# Altium footprint library 常用元件.PcbLib: 186 footprints (part 6 of 12)
Each footprint in its own frame and in the unit in brackets; x right, y up, seen from the top. Pads: shape width x height; smd on the part's side, far side on the other; paste and mask are expansions set on the pad; w line width, h text height; cw(c..) or ccw(c..) is an arc to the next point about the centre after c.
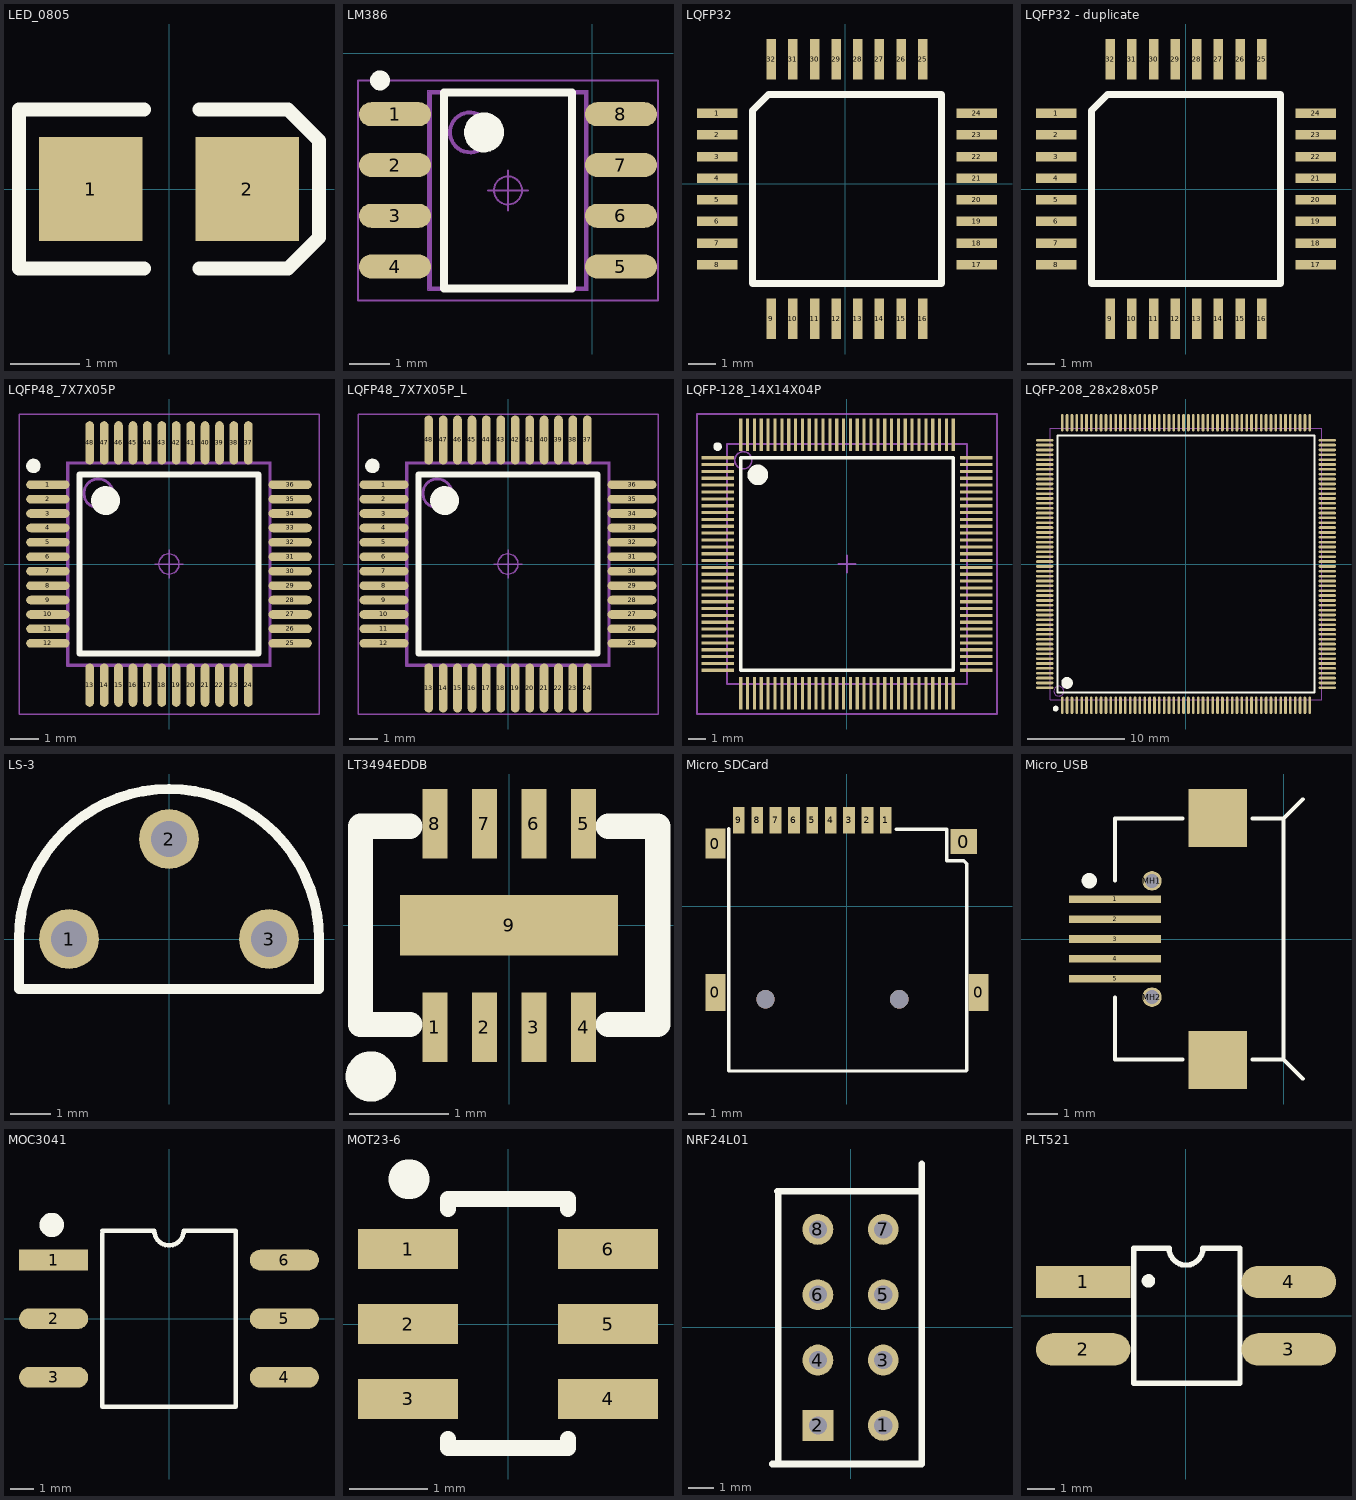
[diagram p5: the footprints below, top view; thin cyan lines are the x and y axes]

## LED_0805 [mm]
pads (2):
  rect 1.5x1.5 smd: 1(-1.13,0) 2(1.13,0)
Top Overlay:
  lines w0.2: -0.362,-1.15 -2.172,-1.15 -2.172,1.15 -0.362,1.15 ; 0.438,-1.15 1.725,-1.15 2.172,-0.703 2.172,0.703 1.725,1.15 0.438,1.15
3D body: height 0.53, standoff -0.02, extent -1.013,-0.625 0.987,0.625

## LM386 [mm] "功放芯片"
pads (8):
  oval 1.8x0.6 smd: 1(-4.933,-1.524) 2(-4.933,-2.794) 3(-4.933,-4.064) 4(-4.933,-5.334) 5(0.717,-5.334) 6(0.717,-4.064) 7(0.717,-2.794) 8(0.717,-1.524)
Top Overlay:
  circle w0.5: c-2.708,-1.979 r0.25
  circle w0.25: c-5.308,-0.679 r0.125
  lines w0.2: -3.708,-5.879 -0.508,-5.879 -0.508,-0.979 -3.708,-0.979 -3.708,-5.879
Mechanical 15:
  circle w0.1: c-3.058,-1.979 r0.5
  lines w0.1: -4.058,-5.879 -0.158,-5.879 -0.158,-0.979 -4.058,-0.979 -4.058,-5.879
  text "1" at -1.658,-3.593 h0.75
Mechanical 16:
  circle w0.05: c-2.108,-3.429 r0.35
  lines w0.001: -4.108,-5.929 -0.108,-5.929 -0.108,-0.929 -4.108,-0.929 -4.108,-5.929
  lines w0.05: -2.608,-3.429 -1.608,-3.429 ; -2.108,-3.929 -2.108,-2.929 ; -5.858,-6.179 1.642,-6.179 1.642,-0.679 -5.858,-0.679 -5.858,-6.179

## LQFP32 [mm]
pads (32):
  rect 1.5x0.35 smd: 1(-4.729,2.602) 2(-4.729,1.802) 3(-4.729,1.002) 4(-4.729,0.202) 5(-4.729,-0.598) 6(-4.729,-1.398) 7(-4.729,-2.198) 8(-4.729,-2.998) 17(4.871,-2.998) 18(4.871,-2.198) 19(4.871,-1.398) 20(4.871,-0.598) 21(4.871,0.202) 22(4.871,1.002) 23(4.871,1.802) 24(4.871,2.602)
  rect 0.35x1.5 smd: 9(-2.729,-4.998) 10(-1.929,-4.998) 11(-1.129,-4.998) 12(-0.329,-4.998) 13(0.471,-4.998) 14(1.271,-4.998) 15(2.071,-4.998) 16(2.871,-4.998) 25(2.871,4.602) 26(2.071,4.602) 27(1.271,4.602) 28(0.471,4.602) 29(-0.329,4.602) 30(-1.129,4.602) 31(-1.929,4.602) 32(-2.729,4.602)
Top Overlay:
  lines w0.254: -3.429,-3.698 3.571,-3.698 3.571,3.302 -2.829,3.302 -3.429,2.702 -3.429,-3.698
  text "." at -2.629,2.302 h1.52

## LQFP32 - duplicate [mm]
pads (32):
  rect 1.5x0.35 smd: 1(-4.8,2.8) 2(-4.8,2) 3(-4.8,1.2) 4(-4.8,0.4) 5(-4.8,-0.4) 6(-4.8,-1.2) 7(-4.8,-2) 8(-4.8,-2.8) 17(4.8,-2.8) 18(4.8,-2) 19(4.8,-1.2) 20(4.8,-0.4) 21(4.8,0.4) 22(4.8,1.2) 23(4.8,2) 24(4.8,2.8)
  rect 0.35x1.5 smd: 9(-2.8,-4.8) 10(-2,-4.8) 11(-1.2,-4.8) 12(-0.4,-4.8) 13(0.4,-4.8) 14(1.2,-4.8) 15(2,-4.8) 16(2.8,-4.8) 25(2.8,4.8) 26(2,4.8) 27(1.2,4.8) 28(0.4,4.8) 29(-0.4,4.8) 30(-1.2,4.8) 31(-2,4.8) 32(-2.8,4.8)
Top Overlay:
  lines w0.254: -3.5,-3.5 -3.5,2.9 -2.9,3.5 3.5,3.5 3.5,-3.5 -3.5,-3.5
  text "." at -2.7,2.5 h1.52

## LQFP48_7X7X05P [mm]
pads (48):
  oval 1.5x0.3 smd: 1(-4.2,2.75) 2(-4.2,2.25) 3(-4.2,1.75) 4(-4.2,1.25) 5(-4.2,0.75) 6(-4.2,0.25) 7(-4.2,-0.25) 8(-4.2,-0.75) 9(-4.2,-1.25) 10(-4.2,-1.75) 11(-4.2,-2.25) 12(-4.2,-2.75) 25(4.2,-2.75) 26(4.2,-2.25) 27(4.2,-1.75) 28(4.2,-1.25) 29(4.2,-0.75) 30(4.2,-0.25) 31(4.2,0.25) 32(4.2,0.75) 33(4.2,1.25) 34(4.2,1.75) 35(4.2,2.25) 36(4.2,2.75)
  oval 0.3x1.5 smd: 13(-2.75,-4.2) 14(-2.25,-4.2) 15(-1.75,-4.2) 16(-1.25,-4.2) 17(-0.75,-4.2) 18(-0.25,-4.2) 19(0.25,-4.2) 20(0.75,-4.2) 21(1.25,-4.2) 22(1.75,-4.2) 23(2.25,-4.2) 24(2.75,-4.2) 37(2.75,4.2) 38(2.25,4.2) 39(1.75,4.2) 40(1.25,4.2) 41(0.75,4.2) 42(0.25,4.2) 43(-0.25,4.2) 44(-0.75,4.2) 45(-1.25,4.2) 46(-1.75,4.2) 47(-2.25,4.2) 48(-2.75,4.2)
Top Overlay:
  circle w0.25: c-4.7,3.4 r0.125
  circle w0.5: c-2.2,2.2 r0.25
  lines w0.2: -3.1,-3.1 3.1,-3.1 3.1,3.1 -3.1,3.1 -3.1,-3.1
Mechanical 15:
  circle w0.1: c-2.45,2.45 r0.5
  lines w0.1: -3.5,-3.5 3.5,-3.5 3.5,3.5 -3.5,3.5 -3.5,-3.5
Mechanical 16:
  circle w0.05: c0,0 r0.35
  lines w0.001: -3.55,-3.55 3.55,-3.55 3.55,3.55 -3.55,3.55 -3.55,-3.55
  lines w0.05: -0.5,0 0.5,0 ; 0,-0.5 0,0.5 ; -5.2,-5.2 5.2,-5.2 5.2,5.2 -5.2,5.2 -5.2,-5.2

## LQFP48_7X7X05P_L [mm]
pads (48):
  oval 1.7x0.3 smd: 1(-4.3,2.75) 2(-4.3,2.25) 3(-4.3,1.75) 4(-4.3,1.25) 5(-4.3,0.75) 6(-4.3,0.25) 7(-4.3,-0.25) 8(-4.3,-0.75) 9(-4.3,-1.25) 10(-4.3,-1.75) 11(-4.3,-2.25) 12(-4.3,-2.75) 25(4.3,-2.75) 26(4.3,-2.25) 27(4.3,-1.75) 28(4.3,-1.25) 29(4.3,-0.75) 30(4.3,-0.25) 31(4.3,0.25) 32(4.3,0.75) 33(4.3,1.25) 34(4.3,1.75) 35(4.3,2.25) 36(4.3,2.75)
  oval 0.3x1.7 smd: 13(-2.75,-4.3) 14(-2.25,-4.3) 15(-1.75,-4.3) 16(-1.25,-4.3) 17(-0.75,-4.3) 18(-0.25,-4.3) 19(0.25,-4.3) 20(0.75,-4.3) 21(1.25,-4.3) 22(1.75,-4.3) 23(2.25,-4.3) 24(2.75,-4.3) 37(2.75,4.3) 38(2.25,4.3) 39(1.75,4.3) 40(1.25,4.3) 41(0.75,4.3) 42(0.25,4.3) 43(-0.25,4.3) 44(-0.75,4.3) 45(-1.25,4.3) 46(-1.75,4.3) 47(-2.25,4.3) 48(-2.75,4.3)
Top Overlay:
  circle w0.5: c-2.2,2.2 r0.25
  circle w0.25: c-4.7,3.4 r0.125
  lines w0.2: -3.1,-3.1 -3.1,3.1 3.1,3.1 3.1,-3.1 -3.1,-3.1
Mechanical 15:
  circle w0.1: c-2.45,2.45 r0.5
  lines w0.1: -3.5,-3.5 -3.5,3.5 3.5,3.5 3.5,-3.5 -3.5,-3.5
Mechanical 16:
  circle w0.05: c0,0 r0.35
  lines w0.001: -3.55,-3.55 -3.55,3.55 3.55,3.55 3.55,-3.55 -3.55,-3.55
  lines w0.05: -0.5,0 0.5,0 ; 0,-0.5 0,0.5 ; -5.2,-5.2 -5.2,5.2 5.2,5.2 5.2,-5.2 -5.2,-5.2

## LQFP-128_14X14X04P [mm]
pads (128):
  rect 1.9x0.18 smd: 1(-7.55,6.2) 2(-7.55,5.8) 3(-7.55,5.4) 4(-7.55,5) 5(-7.55,4.6) 6(-7.55,4.2) 7(-7.55,3.8) 8(-7.55,3.4) 9(-7.55,3) 10(-7.55,2.6) 11(-7.55,2.2) 12(-7.55,1.8) 13(-7.55,1.4) 14(-7.55,1) 15(-7.55,0.6) 16(-7.55,0.2) 17(-7.55,-0.2) 18(-7.55,-0.6) 19(-7.55,-1) 20(-7.55,-1.4) 21(-7.55,-1.8) 22(-7.55,-2.2) 23(-7.55,-2.6) 24(-7.55,-3) 25(-7.55,-3.4) 26(-7.55,-3.8) 27(-7.55,-4.2) 28(-7.55,-4.6) 29(-7.55,-5) 30(-7.55,-5.4) 31(-7.55,-5.8) 32(-7.55,-6.2) 65(7.55,-6.2) 66(7.55,-5.8) 67(7.55,-5.4) 68(7.55,-5) 69(7.55,-4.6) 70(7.55,-4.2) 71(7.55,-3.8) 72(7.55,-3.4) 73(7.55,-3) 74(7.55,-2.6) 75(7.55,-2.2) 76(7.55,-1.8) 77(7.55,-1.4) 78(7.55,-1) 79(7.55,-0.6) 80(7.55,-0.2) 81(7.55,0.2) 82(7.55,0.6) 83(7.55,1) 84(7.55,1.4) 85(7.55,1.8) 86(7.55,2.2) 87(7.55,2.6) 88(7.55,3) 89(7.55,3.4) 90(7.55,3.8) 91(7.55,4.2) 92(7.55,4.6) 93(7.55,5) 94(7.55,5.4) 95(7.55,5.8) 96(7.55,6.2)
  rect 0.18x1.9 smd: 33(-6.2,-7.55) 34(-5.8,-7.55) 35(-5.4,-7.55) 36(-5,-7.55) 37(-4.6,-7.55) 38(-4.2,-7.55) 39(-3.8,-7.55) 40(-3.4,-7.55) 41(-3,-7.55) 42(-2.6,-7.55) 43(-2.2,-7.55) 44(-1.8,-7.55) 45(-1.4,-7.55) 46(-1,-7.55) 47(-0.6,-7.55) 48(-0.2,-7.55) 49(0.2,-7.55) 50(0.6,-7.55) 51(1,-7.55) 52(1.4,-7.55) 53(1.8,-7.55) 54(2.2,-7.55) 55(2.6,-7.55) 56(3,-7.55) 57(3.4,-7.55) 58(3.8,-7.55) 59(4.2,-7.55) 60(4.6,-7.55) 61(5,-7.55) 62(5.4,-7.55) 63(5.8,-7.55) 64(6.2,-7.55) 97(6.2,7.55) 98(5.8,7.55) 99(5.4,7.55) 100(5,7.55) 101(4.6,7.55) 102(4.2,7.55) 103(3.8,7.55) 104(3.4,7.55) 105(3,7.55) 106(2.6,7.55) 107(2.2,7.55) 108(1.8,7.55) 109(1.4,7.55) 110(1,7.55) 111(0.6,7.55) 112(0.2,7.55) 113(-0.2,7.55) 114(-0.6,7.55) 115(-1,7.55) 116(-1.4,7.55) 117(-1.8,7.55) 118(-2.2,7.55) 119(-2.6,7.55) 120(-3,7.55) 121(-3.4,7.55) 122(-3.8,7.55) 123(-4.2,7.55) 124(-4.6,7.55) 125(-5,7.55) 126(-5.4,7.55) 127(-5.8,7.55) 128(-6.2,7.55)
Top Overlay:
  circle w0.6: c-5.2,5.2 r0.3
  circle w0.25: c-7.55,6.85 r0.125
  lines w0.2: -6.2,-6.2 6.2,-6.2 6.2,6.2 -6.2,6.2 -6.2,-6.2
Mechanical 13:
  circle w0.1: c-6.05,6.05 r0.5
  lines w0.1: -7,-7 7,-7 7,7 -7,7 -7,-7
Mechanical 15:
  lines w0.1: -0.5,0 0.5,0 ; 0,-0.5 0,0.5 ; -8.75,-8.75 8.75,-8.75 8.75,8.75 -8.75,8.75 -8.75,-8.75
3D body: height 1.6, standoff 0.05, extent -7,-7 7,7

## LQFP-208_28x28x05P [mm]
pads (208):
  oval 0.28x1.8 smd mask+0.051: 1(-12.75,-14.55) 2(-12.25,-14.55) 3(-11.75,-14.55) 4(-11.25,-14.55) 5(-10.75,-14.55) 6(-10.25,-14.55) 7(-9.75,-14.55) 8(-9.25,-14.55) 9(-8.75,-14.55) 10(-8.25,-14.55) 11(-7.75,-14.55) 12(-7.25,-14.55) 13(-6.75,-14.55) 14(-6.25,-14.55) 15(-5.75,-14.55) 16(-5.25,-14.55) 17(-4.75,-14.55) 18(-4.25,-14.55) 19(-3.75,-14.55) 20(-3.25,-14.55) 21(-2.75,-14.55) 22(-2.25,-14.55) 23(-1.75,-14.55) 24(-1.25,-14.55) 25(-0.75,-14.55) 26(-0.25,-14.55) 27(0.25,-14.55) 28(0.75,-14.55) 29(1.25,-14.55) 30(1.75,-14.55) 31(2.25,-14.55) 32(2.75,-14.55) 33(3.25,-14.55) 34(3.75,-14.55) 35(4.25,-14.55) 36(4.75,-14.55) 37(5.25,-14.55) 38(5.75,-14.55) 39(6.25,-14.55) 40(6.75,-14.55) 41(7.25,-14.55) 42(7.75,-14.55) 43(8.25,-14.55) 44(8.75,-14.55) 45(9.25,-14.55) 46(9.75,-14.55) 47(10.25,-14.55) 48(10.75,-14.55) 49(11.25,-14.55) 50(11.75,-14.55) 51(12.25,-14.55) 52(12.75,-14.55) 105(12.75,14.55) 106(12.25,14.55) 107(11.75,14.55) 108(11.25,14.55) 109(10.75,14.55) 110(10.25,14.55) 111(9.75,14.55) 112(9.25,14.55) 113(8.75,14.55) 114(8.25,14.55) 115(7.75,14.55) 116(7.25,14.55) 117(6.75,14.55) 118(6.25,14.55) 119(5.75,14.55) 120(5.25,14.55) 121(4.75,14.55) 122(4.25,14.55) 123(3.75,14.55) 124(3.25,14.55) 125(2.75,14.55) 126(2.25,14.55) 127(1.75,14.55) 128(1.25,14.55) 129(0.75,14.55) 130(0.25,14.55) 131(-0.25,14.55) 132(-0.75,14.55) 133(-1.25,14.55) 134(-1.75,14.55) 135(-2.25,14.55) 136(-2.75,14.55) 137(-3.25,14.55) 138(-3.75,14.55) 139(-4.25,14.55) 140(-4.75,14.55) 141(-5.25,14.55) 142(-5.75,14.55) 143(-6.25,14.55) 144(-6.75,14.55) 145(-7.25,14.55) 146(-7.75,14.55) 147(-8.25,14.55) 148(-8.75,14.55) 149(-9.25,14.55) 150(-9.75,14.55) 151(-10.25,14.55) 152(-10.75,14.55) 153(-11.25,14.55) 154(-11.75,14.55) 155(-12.25,14.55) 156(-12.75,14.55)
  oval 1.8x0.28 smd mask+0.051: 53(14.55,-12.75) 54(14.55,-12.25) 55(14.55,-11.75) 56(14.55,-11.25) 57(14.55,-10.75) 58(14.55,-10.25) 59(14.55,-9.75) 60(14.55,-9.25) 61(14.55,-8.75) 62(14.55,-8.25) 63(14.55,-7.75) 64(14.55,-7.25) 65(14.55,-6.75) 66(14.55,-6.25) 67(14.55,-5.75) 68(14.55,-5.25) 69(14.55,-4.75) 70(14.55,-4.25) 71(14.55,-3.75) 72(14.55,-3.25) 73(14.55,-2.75) 74(14.55,-2.25) 75(14.55,-1.75) 76(14.55,-1.25) 77(14.55,-0.75) 78(14.55,-0.25) 79(14.55,0.25) 80(14.55,0.75) 81(14.55,1.25) 82(14.55,1.75) 83(14.55,2.25) 84(14.55,2.75) 85(14.55,3.25) 86(14.55,3.75) 87(14.55,4.25) 88(14.55,4.75) 89(14.55,5.25) 90(14.55,5.75) 91(14.55,6.25) 92(14.55,6.75) 93(14.55,7.25) 94(14.55,7.75) 95(14.55,8.25) 96(14.55,8.75) 97(14.55,9.25) 98(14.55,9.75) 99(14.55,10.25) 100(14.55,10.75) 101(14.55,11.25) 102(14.55,11.75) 103(14.55,12.25) 104(14.55,12.75) 157(-14.55,12.75) 158(-14.55,12.25) 159(-14.55,11.75) 160(-14.55,11.25) 161(-14.55,10.75) 162(-14.55,10.25) 163(-14.55,9.75) 164(-14.55,9.25) 165(-14.55,8.75) 166(-14.55,8.25) 167(-14.55,7.75) 168(-14.55,7.25) 169(-14.55,6.75) 170(-14.55,6.25) 171(-14.55,5.75) 172(-14.55,5.25) 173(-14.55,4.75) 174(-14.55,4.25) 175(-14.55,3.75) 176(-14.55,3.25) 177(-14.55,2.75) 178(-14.55,2.25) 179(-14.55,1.75) 180(-14.55,1.25) 181(-14.55,0.75) 182(-14.55,0.25) 183(-14.55,-0.25) 184(-14.55,-0.75) 185(-14.55,-1.25) 186(-14.55,-1.75) 187(-14.55,-2.25) 188(-14.55,-2.75) 189(-14.55,-3.25) 190(-14.55,-3.75) 191(-14.55,-4.25) 192(-14.55,-4.75) 193(-14.55,-5.25) 194(-14.55,-5.75) 195(-14.55,-6.25) 196(-14.55,-6.75) 197(-14.55,-7.25) 198(-14.55,-7.75) 199(-14.55,-8.25) 200(-14.55,-8.75) 201(-14.55,-9.25) 202(-14.55,-9.75) 203(-14.55,-10.25) 204(-14.55,-10.75) 205(-14.55,-11.25) 206(-14.55,-11.75) 207(-14.55,-12.25) 208(-14.55,-12.75)
Top Overlay:
  circle w0.3: c-13.425,-14.9 r0.15
  circle w0.6: c-12.25,-12.25 r0.3
  lines w0.2: -13.25,-13.25 -13.25,13.25 13.25,13.25 13.25,-13.25 -13.25,-13.25
Mechanical 13:
  circle w0.1: c-13.1,-13.1 r0.5
  lines w0.1: -14,-14 -14,14 14,14 14,-14 -14,-14

## LS-3 [mm] "立式可调电阻"
pads (3):
  round 1.5 hole 0.9: 1(-2.5,0) 2(0,2.5) 3(2.5,0)
Top Overlay:
  lines w0.254: -3.75,-1.25 -3.75,0 cw(c0,0) 0,3.75 cw(c0,0) 3.75,0 3.75,-1.25 -3.75,-1.25

## LT3494EDDB [mm] "DFN-8_3X2MM"
pads (9):
  rect 0.25x0.7 smd: 1(-0.75,-1.027) 2(-0.25,-1.027) 3(0.25,-1.027) 4(0.75,-1.027) 5(0.75,1.027) 6(0.25,1.027) 7(-0.25,1.027) 8(-0.75,1.027)
  rect 2.2x0.61 smd: 9(0,0)
Top Overlay:
  circle w0.254: c-1.397,-1.524 r0.127
  lines w0.254: -1,-1 -1.5,-1 -1.5,1 -1,1 ; 1,-1 1.5,-1 1.5,1 1,1

## Micro_SDCard [mm]
pads (13):
  rect 1.2x2.2 smd: 0(-7.875,-5.15) 0(7.876,-5.15)
  rect 1.2x1.8 smd: 0(-7.875,3.753)
  rect 1.6x1.5 smd: 0(6.987,3.88)
  rect 0.7x1.6 smd: 1(2.324,5.15) 2(1.225,5.15) 3(0.124,5.15) 4(-0.976,5.15) 5(-2.076,5.15) 6(-3.176,5.15) 7(-4.276,5.15) 8(-5.376,5.15) 9(-6.475,5.15)
via 3.124,-5.55 diameter 1.1 hole 1.1
via -4.876,-5.55 diameter 1.1 hole 1.1
Top Overlay:
  lines w0.2: -7.075,4.65 -7.075,-9.85 6.606,-9.85 7.114,-9.85 7.167,-9.797 7.167,-5.264 ; 2.949,4.615 5.971,4.615 5.971,2.991 ; 5.971,3.245 5.971,2.737 6.987,2.737 7.167,2.557 7.167,-5.55

## Micro_USB [mm] "手机USB座子"
pads (9):
  rect 3x0.25 smd: 1(-5.508,1.3) 2(-5.508,0.65) 3(-5.508,0) 4(-5.508,-0.65) 5(-5.508,-1.3)
  round 0.635 hole 0.457 unplated: MH1(-4.3,1.9) MH2(-4.3,-1.9)
  rect 1.9x1.9 smd: ""(-2.15,-3.95) ""(-2.15,3.95)
Top Overlay:
  circle w0.25: c-6.348,1.905 r0.125
  lines w0.127: -5.508,-3.937 -3.302,-3.937 ; -5.508,-3.9 -5.508,-1.905 ; -5.508,1.905 -5.508,3.9 ; -5.508,3.937 -3.302,3.937 ; -1.016,-3.937 0,-3.937 0.63,-4.567 ; -1.016,3.937 0,3.937 0.63,4.567 ; 0,-3.9 0,3.9

## MOC3041 [mm]
pads (6):
  rect 3x0.9 smd: 1(-5,2.54)
  oval 3x0.9 smd: 2(-5,0) 3(-5,-2.54) 4(5,-2.54) 5(5,0) 6(5,2.54)
Top Overlay:
  circle w0.8: c-5.08,4.064 r0.125
  lines w0.2: -2.9,3.71 -2.9,1.805 -2.9,-2.005 -2.9,-3.81 2.9,-3.81 2.9,3.81 0.635,3.81 cw(c0,3.81) -0.635,3.81 -2.9,3.81

## MOT23-6 [mil]
pads (6):
  rect 50x20 smd: 1(-50,37.4) 2(-50,0) 3(-50,-37.4) 4(50,-37.4) 5(50,0) 6(50,37.4)
Top Overlay:
  lines w8: -30,-57.6 -30,-61.92 30,-61.92 30,-57.6 ; -30,57.4 -30,62.4 30,62.4 30,57.4
  lines w19.68: -50,72.4 -49,72.4

## NRF24L01 [mm]
pads (8):
  round 1.2 hole 0.7: 1(1.27,-3.81) 3(1.27,-1.27) 4(-1.27,-1.27) 5(1.27,1.27) 6(-1.27,1.27) 7(1.27,3.81) 8(-1.27,3.81)
  rect 1.2x1.2 hole 0.7: 2(-1.27,-3.81)
Top Overlay:
  lines w0.254: -3.048,-5.31 2.77,-5.31 2.77,6.35 ; -2.819,-5.31 -2.819,5.258 -2.845,5.283 2.77,5.283

## PLT521 [mm]
pads (4):
  rect 3.5x1.2 smd: 1(-3.81,1.25)
  oval 3.5x1.2 smd: 2(-3.81,-1.25) 3(3.81,-1.25) 4(3.81,1.25)
Top Overlay:
  circle w0.25: c-1.391,1.289 r0.125
  lines w0.2: -1.936,-2.5 -1.936,2.5 -0.625,2.5 ccw(c0,2.5) 0.625,2.5 2.001,2.5 2.001,-2.5 -1.936,-2.5